# EAGLE library part TLV2464 (library ZippyComponentLibrary)
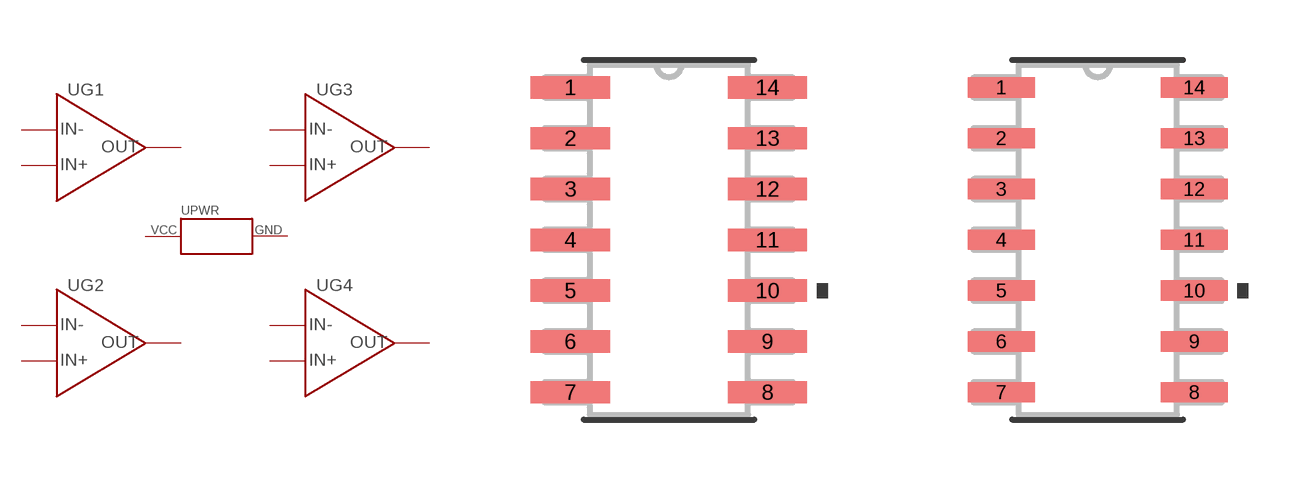
[diagram p2: symbol with the pads of D14; footprints D14, D14-L]

Designator prefix -; gates G1=OPAMP_GATE G2=OPAMP_GATE G3=OPAMP_GATE G4=OPAMP_GATE PWR=POWER_SUPPLY

## TLV2464ID  [D14]
1  G1:OUT
2  G1:IN-
3  G1:IN+
4  PWR:VCC
5  G2:IN+
6  G2:IN-
7  G2:OUT
8  G3:OUT
9  G3:IN-
10  G3:IN+
11  PWR:GND
12  G4:IN+
13  G4:IN-
14  G4:OUT

## TLV2464L  [D14-L]
Pads as for D14

## TLV2464M  [D14-M]
Pads as for D14

## TLV2464IPW  [PW14]
Pads as for D14

## Footprint D14 (pad centres in mm)
smd 1.981 x 0.559: 1 -2.464,3.81; 2 -2.464,2.54; 3 -2.464,1.27; 4 -2.464,0; 5 -2.464,-1.27; 6 -2.464,-2.54; 7 -2.464,-3.81; 8 2.464,-3.81; 9 2.464,-2.54; 10 2.464,-1.27; 11 2.464,0; 12 2.464,1.27; 13 2.464,2.54; 14 2.464,3.81

## Footprint D14-L (pad centres in mm)
smd 1.676 x 0.508: 1 -2.413,3.81; 2 -2.413,2.54; 3 -2.413,1.27; 4 -2.413,0; 5 -2.413,-1.27; 6 -2.413,-2.54; 7 -2.413,-3.81; 8 2.413,-3.81; 9 2.413,-2.54; 10 2.413,-1.27; 11 2.413,0; 12 2.413,1.27; 13 2.413,2.54; 14 2.413,3.81

## Footprint D14-M (pad centres in mm)
smd 2.286 x 0.61: 1 -2.515,3.81; 2 -2.515,2.54; 3 -2.515,1.27; 4 -2.515,0; 5 -2.515,-1.27; 6 -2.515,-2.54; 7 -2.515,-3.81; 8 2.515,-3.81; 9 2.515,-2.54; 10 2.515,-1.27; 11 2.515,0; 12 2.515,1.27; 13 2.515,2.54; 14 2.515,3.81

## Footprint PW14 (pad centres in mm)
smd 1.6 x 0.35: 1 -2.8,1.95; 2 -2.8,1.3; 3 -2.8,0.65; 4 -2.8,0; 5 -2.8,-0.65; 6 -2.8,-1.3; 7 -2.8,-1.95; 8 2.8,-1.95; 9 2.8,-1.3; 10 2.8,-0.65; 11 2.8,0; 12 2.8,0.65; 13 2.8,1.3; 14 2.8,1.95